# EAGLE library part G6K-2F-RF-T-TR03_DC5 (library G6K-2F-RF-T-TR03_DC5)
High Frequency / RF Relays 3GHz SpSavGrd NoLtch DPDT 5DC 100mW TR300 Source: Datasheet <http://omronfs.omron.com/en_US/ecb/products/pdf/en-g6k_2f_rf.pdf>
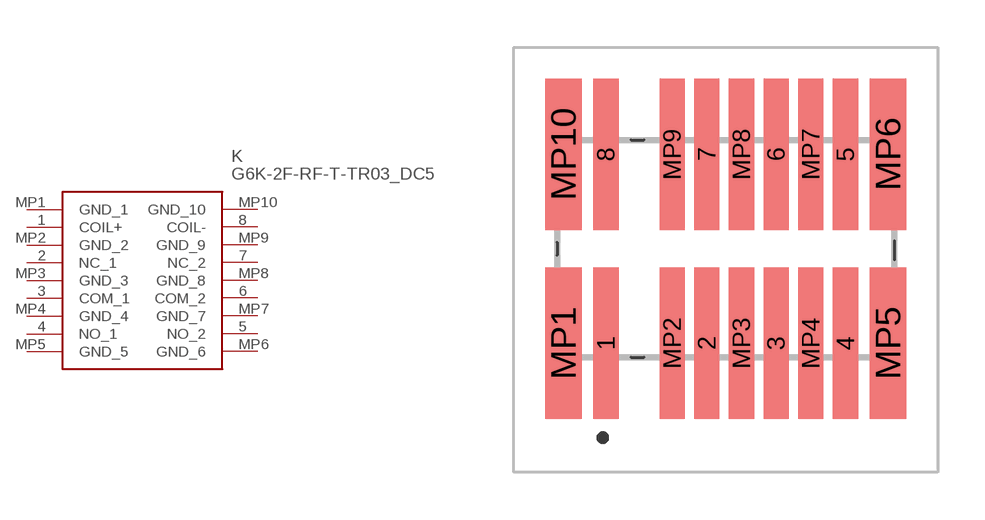
[diagram p0: symbol with the pads of G6K2FRFTTR03DC5; footprint G6K2FRFTTR03DC5]

Designator prefix K

## G6K-2F-RF-T-TR03_DC5 (Description: High Frequency / RF Relays 3GHz SpSavGrd NoLtch DPDT 5DC 100mW TR300; Height: 5.7mm; Manufacturer_Name: Omron Electronics; Manufacturer_Part_Number: G6K-2F-RF-T-TR03 DC5; Mouser_Part_Number: 653-G6K2FRFTTR03DC5; Mouser_Price-Stock: https://www.mouser.co.uk/ProductDetail/Omron-Electronics/G6K-2F-RF-T-TR03-DC5?qs=bR9%2Fh8%2FHa7Q3LGohyKHVjA%3D%3D)  [G6K2FRFTTR03DC5]
1  COIL+
2  NC_1
3  COM_1
4  NO_1
5  NO_2
6  COM_2
7  NC_2
8  COIL-
MP1  GND_1
MP2  GND_2
MP3  GND_3
MP4  GND_4
MP5  GND_5
MP6  GND_6
MP7  GND_7
MP8  GND_8
MP9  GND_9
MP10  GND_10

## Footprint G6K2FRFTTR03DC5 (pad centres in mm)
G6K-2F-RF-T-TR03 DC5-1
smd 0.8 x 4.8: 1 -5.4,-3; 2 -2.2,-3; 3 0,-3; 4 2.2,-3; 5 2.2,3; 6 0,3; 7 -2.2,3; 8 -5.4,3; MP2 -3.3,-3; MP3 -1.1,-3; MP4 1.1,-3; MP7 1.1,3; MP8 -1.1,3; MP9 -3.3,3
smd 1.15 x 4.8: MP1 -6.75,-3; MP5 3.55,-3; MP6 3.55,3; MP10 -6.75,3